# Altium footprint library IC.PCBLIB: 73 footprints (part 3 of 5)
Each footprint in its own frame and in the unit in brackets; x right, y up, seen from the top. Pads: shape width x height; smd on the part's side, far side on the other; paste and mask are expansions set on the pad; w line width, h text height; cw(c..) or ccw(c..) is an arc to the next point about the centre after c.
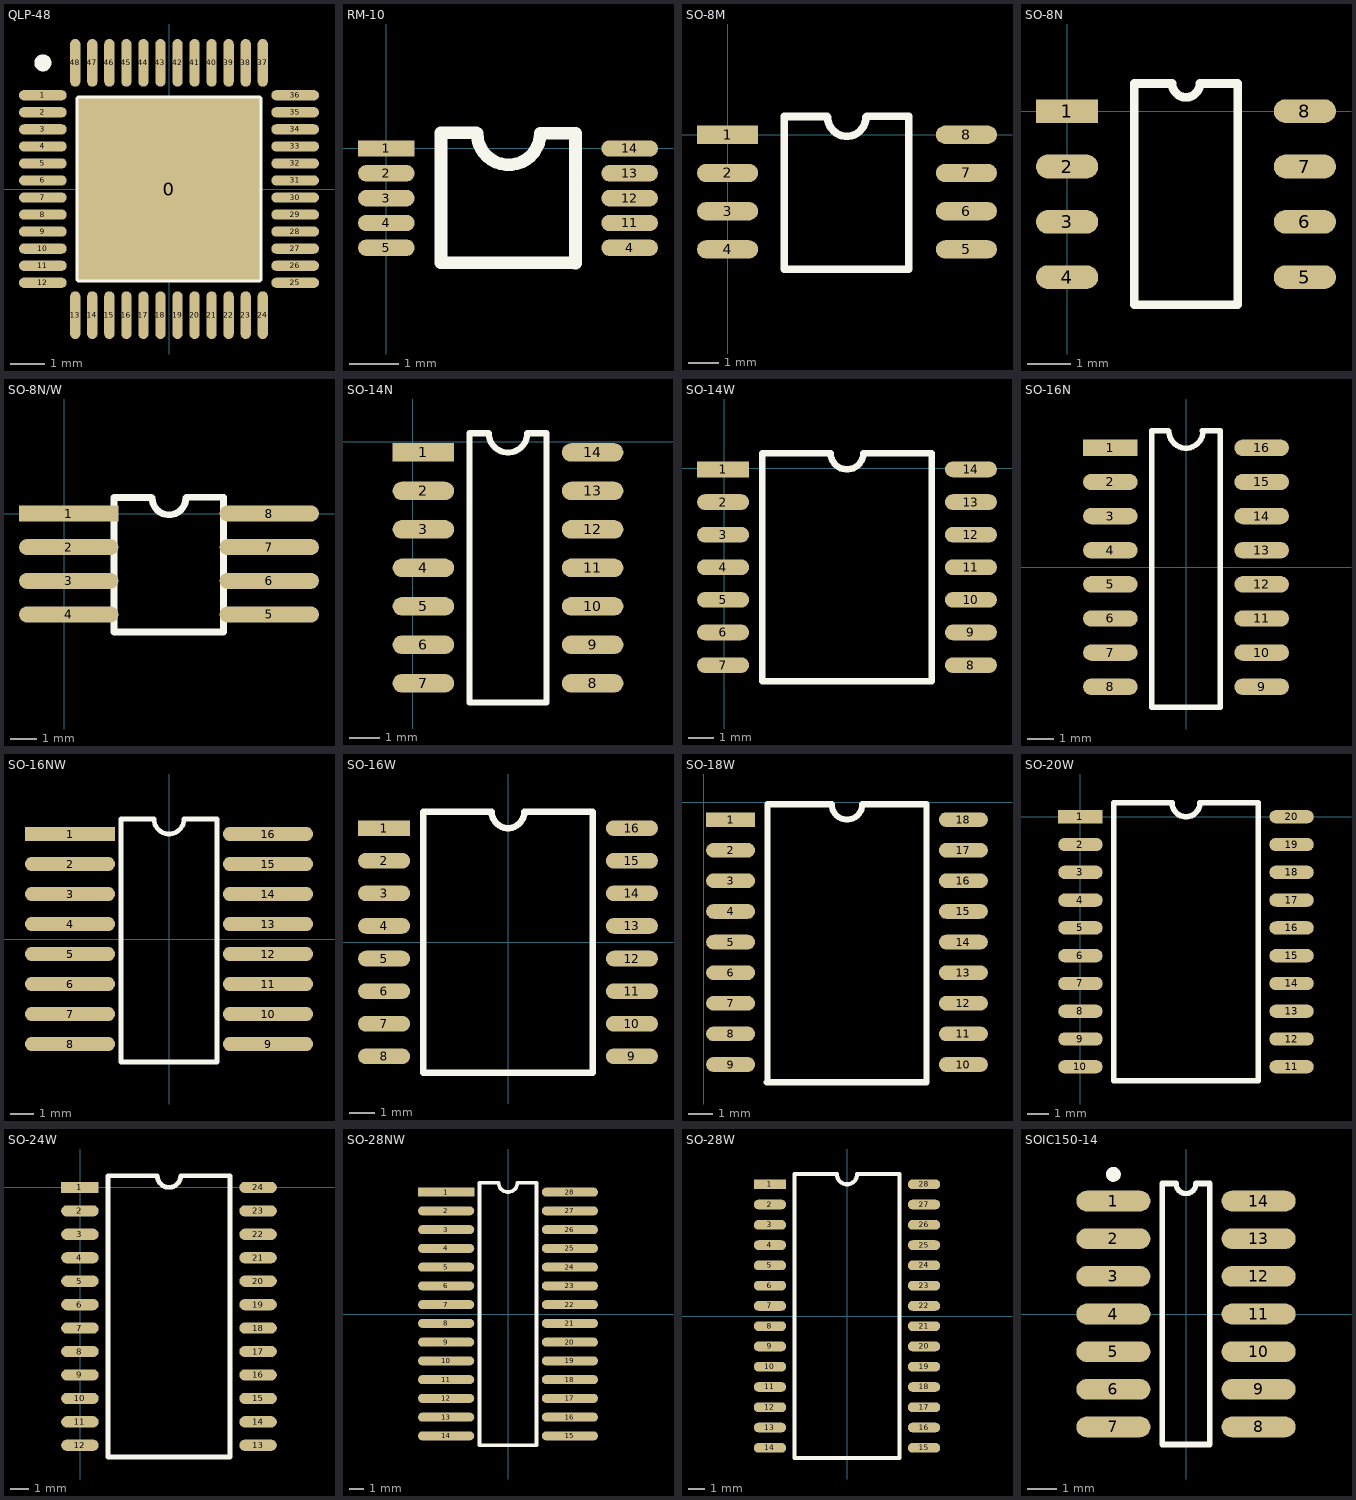
[diagram p2: the footprints below, top view; thin cyan lines are the x and y axes]

## QLP-48 [mm] "QLP-48"
height 1.6
pads (49):
  rect 5.3x5.3 smd: 0(0,0)
  oval 1.4x0.3 smd: 1(-3.7,2.75) 2(-3.7,2.25) 3(-3.7,1.75) 4(-3.7,1.25) 5(-3.7,0.75) 6(-3.7,0.25) 7(-3.7,-0.25) 8(-3.7,-0.75) 9(-3.7,-1.25) 10(-3.7,-1.75) 11(-3.7,-2.25) 12(-3.7,-2.75) 25(3.7,-2.75) 26(3.7,-2.25) 27(3.7,-1.75) 28(3.7,-1.25) 29(3.7,-0.75) 30(3.7,-0.25) 31(3.7,0.25) 32(3.7,0.75) 33(3.7,1.25) 34(3.7,1.75) 35(3.7,2.25) 36(3.7,2.75)
  oval 0.3x1.4 smd: 13(-2.75,-3.7) 14(-2.25,-3.7) 15(-1.75,-3.7) 16(-1.25,-3.7) 17(-0.75,-3.7) 18(-0.25,-3.7) 19(0.25,-3.7) 20(0.75,-3.7) 21(1.25,-3.7) 22(1.75,-3.7) 23(2.25,-3.7) 24(2.75,-3.7) 37(2.75,3.7) 38(2.25,3.7) 39(1.75,3.7) 40(1.25,3.7) 41(0.75,3.7) 42(0.25,3.7) 43(-0.25,3.7) 44(-0.75,3.7) 45(-1.25,3.7) 46(-1.75,3.7) 47(-2.25,3.7) 48(-2.75,3.7)
TopOverlay:
  circle w0.25: c-3.7,3.7 r0.125
  lines w0.2: -2.65,-2.65 2.65,-2.65 2.65,2.65 -2.65,2.65 -2.65,-2.65

## RM-10 [mm]
pads (10):
  rect 1.143x0.33 smd: 1(0,0)
  oval 1.143x0.33 smd: 2(0,-0.5) 3(0,-1) 4(0,-1.5) 4(4.9,-2) 5(0,-2) 11(4.9,-1.5) 12(4.9,-1) 13(4.9,-0.5) 14(4.9,0)
TopOverlay:
  lines w0.254: 1.814,0.32 1.1,0.32 1.1,-2.3 3.799,-2.3 ; 1.829,0.305 ccw(c2.464,0.305) 3.099,0.305 3.806,0.305 ; 3.81,-2.311 3.81,0.309

## SO-8M [mil]
pads (8):
  rect 80x24 smd: 1(0,0)
  oval 80x24 smd: 2(0,-50) 3(0,-100) 4(0,-150) 5(312.6,-150) 6(312.6,-100) 7(312.6,-50) 8(312.6,0)
TopOverlay:
  lines w10: 130.06,23.94 74.39,23.94 74.39,-176.06 237.01,-176.06 ; 131,23 ccw(c156,23) 181,23 ; 182,24 237.01,24 ; 236.01,23 237.01,24 ; 237.01,-176 237.01,24

## SO-8N [mm]
pads (8):
  rect 1.44x0.55 smd: 1(0,0)
  oval 1.44x0.55 smd: 2(0,-1.28) 3(0,-2.56) 4(0,-3.84) 5(5.5,-3.84) 6(5.5,-2.56) 7(5.5,-1.28) 8(5.5,0)
TopOverlay:
  lines w0.2: 1.555,-4.48 3.945,-4.48 3.945,0.64 3.07,0.64 cw(c2.75,0.64) 2.43,0.64 1.555,0.64 1.555,-4.48

## SO-8N/W [mil]
height 590.55
pads (8):
  rect 147.64x24 smd: 1(6.97,0)
  oval 147.64x24 smd: 2(6.97,-50) 3(6.97,-100) 4(6.97,-150) 5(305,-150) 6(305,-100) 7(305,-50) 8(305,0)
TopOverlay:
  lines w10: 130.06,23.94 74.39,23.94 74.39,-176.06 237.01,-176.06 ; 131,23 ccw(c156,23) 181,23 ; 182,24 237.01,24 ; 236.01,23 237.01,24 ; 237.01,-176 237.01,24

## SO-14N [mil]
pads (14):
  rect 80x24 smd: 1(14,-14)
  oval 80x24 smd: 2(14,-64) 3(14,-114) 4(14,-164) 5(14,-214) 6(14,-264) 7(14,-314) 8(234,-314) 9(234,-264) 10(234,-214) 11(234,-164) 12(234,-114) 13(234,-64) 14(234,-14)
TopOverlay:
  lines w8: 74,-339 174,-339 174,11 149,11 cw(c124,11) 99,11 74,11 74,-339

## SO-14W [mil]
pads (14):
  rect 80x24 smd: 1(-2,-2)
  oval 80x24 smd: 2(-2,-52) 3(-2,-102) 4(-2,-152) 5(-2,-202) 6(-2,-252) 7(-2,-302) 8(378,-302) 9(378,-252) 10(378,-202) 11(378,-152) 12(378,-102) 13(378,-52) 14(378,-2)
TopOverlay:
  lines w10: 58,-327 58,23 163,23 ccw(c188,23) 213,23 318,23 318,-327 58,-327

## SO-16N [mil]
pads (16):
  rect 80x24 smd: 1(-110.95,175)
  oval 80x24 smd: 2(-110.95,125) 3(-110.95,75) 4(-110.95,25) 5(-110.95,-25) 6(-110.95,-75) 7(-110.95,-125) 8(-110.95,-175) 9(110.95,-175) 10(110.95,-125) 11(110.95,-75) 12(110.95,-25) 13(110.95,25) 14(110.95,75) 15(110.95,125) 16(110.95,175)
TopOverlay:
  lines w8: -50.05,199.62 -50.05,-205 49.95,-205 49.95,199.62 ; -50.05,200 -25.95,200 ; -25.05,199.62 ccw(c-0.05,199.62) 24.95,199.62 ; 24.05,200 49.95,200

## SO-16NW [mil]
height 590.55
pads (16):
  rect 150x24 smd: 1(-165,175)
  oval 150x24 smd: 2(-165,125) 3(-165,75) 4(-165,25) 5(-165,-25) 6(-165,-75) 7(-165,-125) 8(-165,-175) 9(165,-175) 10(165,-125) 11(165,-75) 12(165,-25) 13(165,25) 14(165,75) 15(165,125) 16(165,175)
TopOverlay:
  lines w8: -80,-205 80,-205 80,200 25,200 cw(c0,200) -25,200 -80,200 -80,-205

## SO-16W [mil]
pads (16):
  rect 80x24 smd: 1(-190,175)
  oval 80x24 smd: 2(-190,125) 3(-190,75) 4(-190,25) 5(-190,-25) 6(-190,-75) 7(-190,-125) 8(-190,-175) 9(190,-175) 10(190,-125) 11(190,-75) 12(190,-25) 13(190,25) 14(190,75) 15(190,125) 16(190,175)
TopOverlay:
  lines w10: -25.28,200 -130,200 -130,-200 130,-200 130,200 25,200 cw(c0,200) -25,200

## SO-18W [mil]
pads (18):
  rect 80x24 smd: 1(44,-28)
  oval 80x24 smd: 2(44,-78) 3(44,-128) 4(44,-178) 5(44,-228) 6(44,-278) 7(44,-328) 8(44,-378) 9(44,-428) 10(424,-428) 11(424,-378) 12(424,-328) 13(424,-278) 14(424,-228) 15(424,-178) 16(424,-128) 17(424,-78) 18(424,-28)
TopOverlay:
  lines w10: 103,-457 363,-457 ; 104,-457 104,-3 209,-3 ccw(c234,-3) 259,-3 364,-3 364,-457

## SO-20W [mil]
pads (20):
  rect 80x24 smd: 1(0,0)
  oval 80x24 smd: 2(0,-50) 3(0,-100) 4(0,-150) 5(0,-200) 6(0,-250) 7(0,-300) 8(0,-350) 9(0,-400) 10(0,-450) 11(380,-450) 12(380,-400) 13(380,-350) 14(380,-300) 15(380,-250) 16(380,-200) 17(380,-150) 18(380,-100) 19(380,-50) 20(380,0)
TopOverlay:
  lines w10: 60,-475 320,-475 320,25 215,25 cw(c190,25) 165,25 60,25 60,-475

## SO-24W [mil]
pads (24):
  rect 80x24 smd: 1(-1,0)
  oval 80x24 smd: 2(-1,-50) 3(-1,-100) 4(-1,-150) 5(-1,-200) 6(-1,-250) 7(-1,-300) 8(-1,-350) 9(-1,-400) 10(-1,-450) 11(-1,-500) 12(-1,-550) 13(379,-550) 14(379,-500) 15(379,-450) 16(379,-400) 17(379,-350) 18(379,-300) 19(379,-250) 20(379,-200) 21(379,-150) 22(379,-100) 23(379,-50) 24(379,0)
TopOverlay:
  lines w10: 59,-575 59,25 164,25 ccw(c189,25) 214,25 319,25 319,-575 59,-575

## SO-28NW [mil]
height 590.55
pads (28):
  rect 150x24 smd: 1(-165,325)
  oval 150x24 smd: 2(-165,275) 3(-165,225) 4(-165,175) 5(-165,125) 6(-165,75) 7(-165,25) 8(-165,-25) 9(-165,-75) 10(-165,-125) 11(-165,-175) 12(-165,-225) 13(-165,-275) 14(-165,-325) 15(165,-325) 16(165,-275) 17(165,-225) 18(165,-175) 19(165,-125) 20(165,-75) 21(165,-25) 22(165,25) 23(165,75) 24(165,125) 25(165,175) 26(165,225) 27(165,275) 28(165,325)
TopOverlay:
  lines w10: -76.3,350 -76.3,-350 76.3,-350 76.3,350 25,350 cw(c0,350) -25,350 -75,350

## SO-28W [mil]
pads (28):
  rect 80x24 smd: 1(-190,325)
  oval 80x24 smd: 2(-190,275) 3(-190,225) 4(-190,175) 5(-190,125) 6(-190,75) 7(-190,25) 8(-190,-25) 9(-190,-75) 10(-190,-125) 11(-190,-175) 12(-190,-225) 13(-190,-275) 14(-190,-325) 15(190,-325) 16(190,-275) 17(190,-225) 18(190,-175) 19(190,-125) 20(190,-75) 21(190,-25) 22(190,25) 23(190,75) 24(190,125) 25(190,175) 26(190,225) 27(190,275) 28(190,325)
TopOverlay:
  lines w10: -130,-350 -130,350 -25,350 ccw(c0,350) 25,350 130,350 130,-350 -130,-350

## SOIC150-14 [mm] "SOIC, 14-Leads, Body 8.7x3.9mm, Pitch 1.27mm, IPC Low Density"
height 1.76
pads (14):
  oval 2.5x0.7 smd: 1(-2.45,3.81) 2(-2.45,2.54) 3(-2.45,1.27) 4(-2.45,0) 5(-2.45,-1.27) 6(-2.45,-2.54) 7(-2.45,-3.81) 8(2.45,-3.81) 9(2.45,-2.54) 10(2.45,-1.27) 11(2.45,0) 12(2.45,1.27) 13(2.45,2.54) 14(2.45,3.81)
TopOverlay:
  circle w0.25: c-2.45,4.71 r0.125
  lines w0.178: -0.336,4.4 ccw(c0,4.4) 0.336,4.4
  lines w0.2: -0.8,4.4 -0.8,-4.4 0.8,-4.4 0.8,4.4
  lines w0.203: -0.8,4.4 -0.336,4.4 ; 0.336,4.4 0.8,4.4